# EAGLE library part SN74LVC1T45 (library BoneCapeParts)
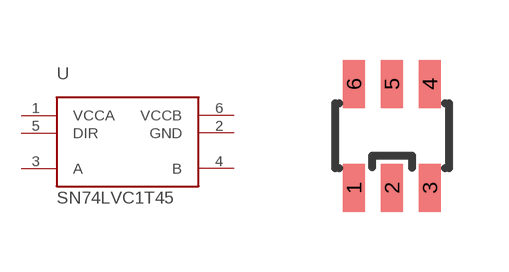
[diagram p15: symbol with the pads of SOT23-6; footprint SOT23-6]

Designator prefix -

## SN74LVC1T45  [SOT23-6]
1  VCCA  sup
2  GND  sup
3  A
4  B
5  DIR  in
6  VCCB  sup

## Footprint SOT23-6 (pad centres in mm)
smd 0.55 x 1.2: 1 -0.95,-1.3; 2 0,-1.3; 3 0.95,-1.3; 4 0.95,1.3; 5 0,1.3; 6 -0.95,1.3